# Altium schematic symbol library 6_6_71_6_6_7.SCHLIB: 1 symbol
Pins are listed as number, name and electrical type; pins without a type are passive.

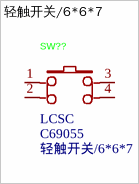
[diagram p0: symbol 轻触开关/6*6*7]

## 轻触开关/6*6*7
designator SW??  Supplier Part: C69055  Supplier: LCSC  (hidden comment: 轻触开关/6*6*7)
Symbol: 6*6*7; Add into BOM: yes; Device: 轻触开关/6*6*7; LCSC Part Name: 轻触开关，6*6*7塑头，200G，行程0.25mm，直插; Supplier Footprint: 插件; JLCPCB Part Class: Extended Part; Convert to PCB: yes; Manufacturer Part: 轻触开关/6*6*7
footprint SW-TH_4P-L6.0-W6.0-P4.50-LS6.5
3D model SW-TH_4P-L6.0-W6.0-H5.0-LS6.5-P4.50
pins: 1, 2, 3, 4